# Altium schematic symbol library Banana-2.0-F.Schlib: 1 symbol
Pins are listed as number, name and electrical type; pins without a type are passive.

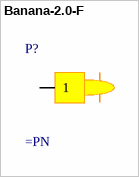
[diagram p0: symbol Banana-2.0-F]

## Banana-2.0-F
designator P?
Banana 2.0mm Female
pins: 1